# Altium schematic symbol library MOSFET,N Ch,30V,10A.Schlib: 1 symbol
Pins are listed as number, name and electrical type; pins without a type are passive.

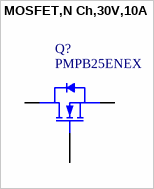
[diagram p0: symbol MOSFET,N Ch,30V,10A]

## MOSFET,N Ch,30V,10A
designator Q?, comment PMPB25ENEX
N-Channel 30 V 10A (Ta) 2.1W (Ta) Surface Mount DFN2020MD-6
pins: 1 D, 2 G, 3 S